# Altium schematic symbol library MCU_SiFive.SchLib: 3 symbols
Pins are listed as number, name and electrical type; pins without a type are passive.

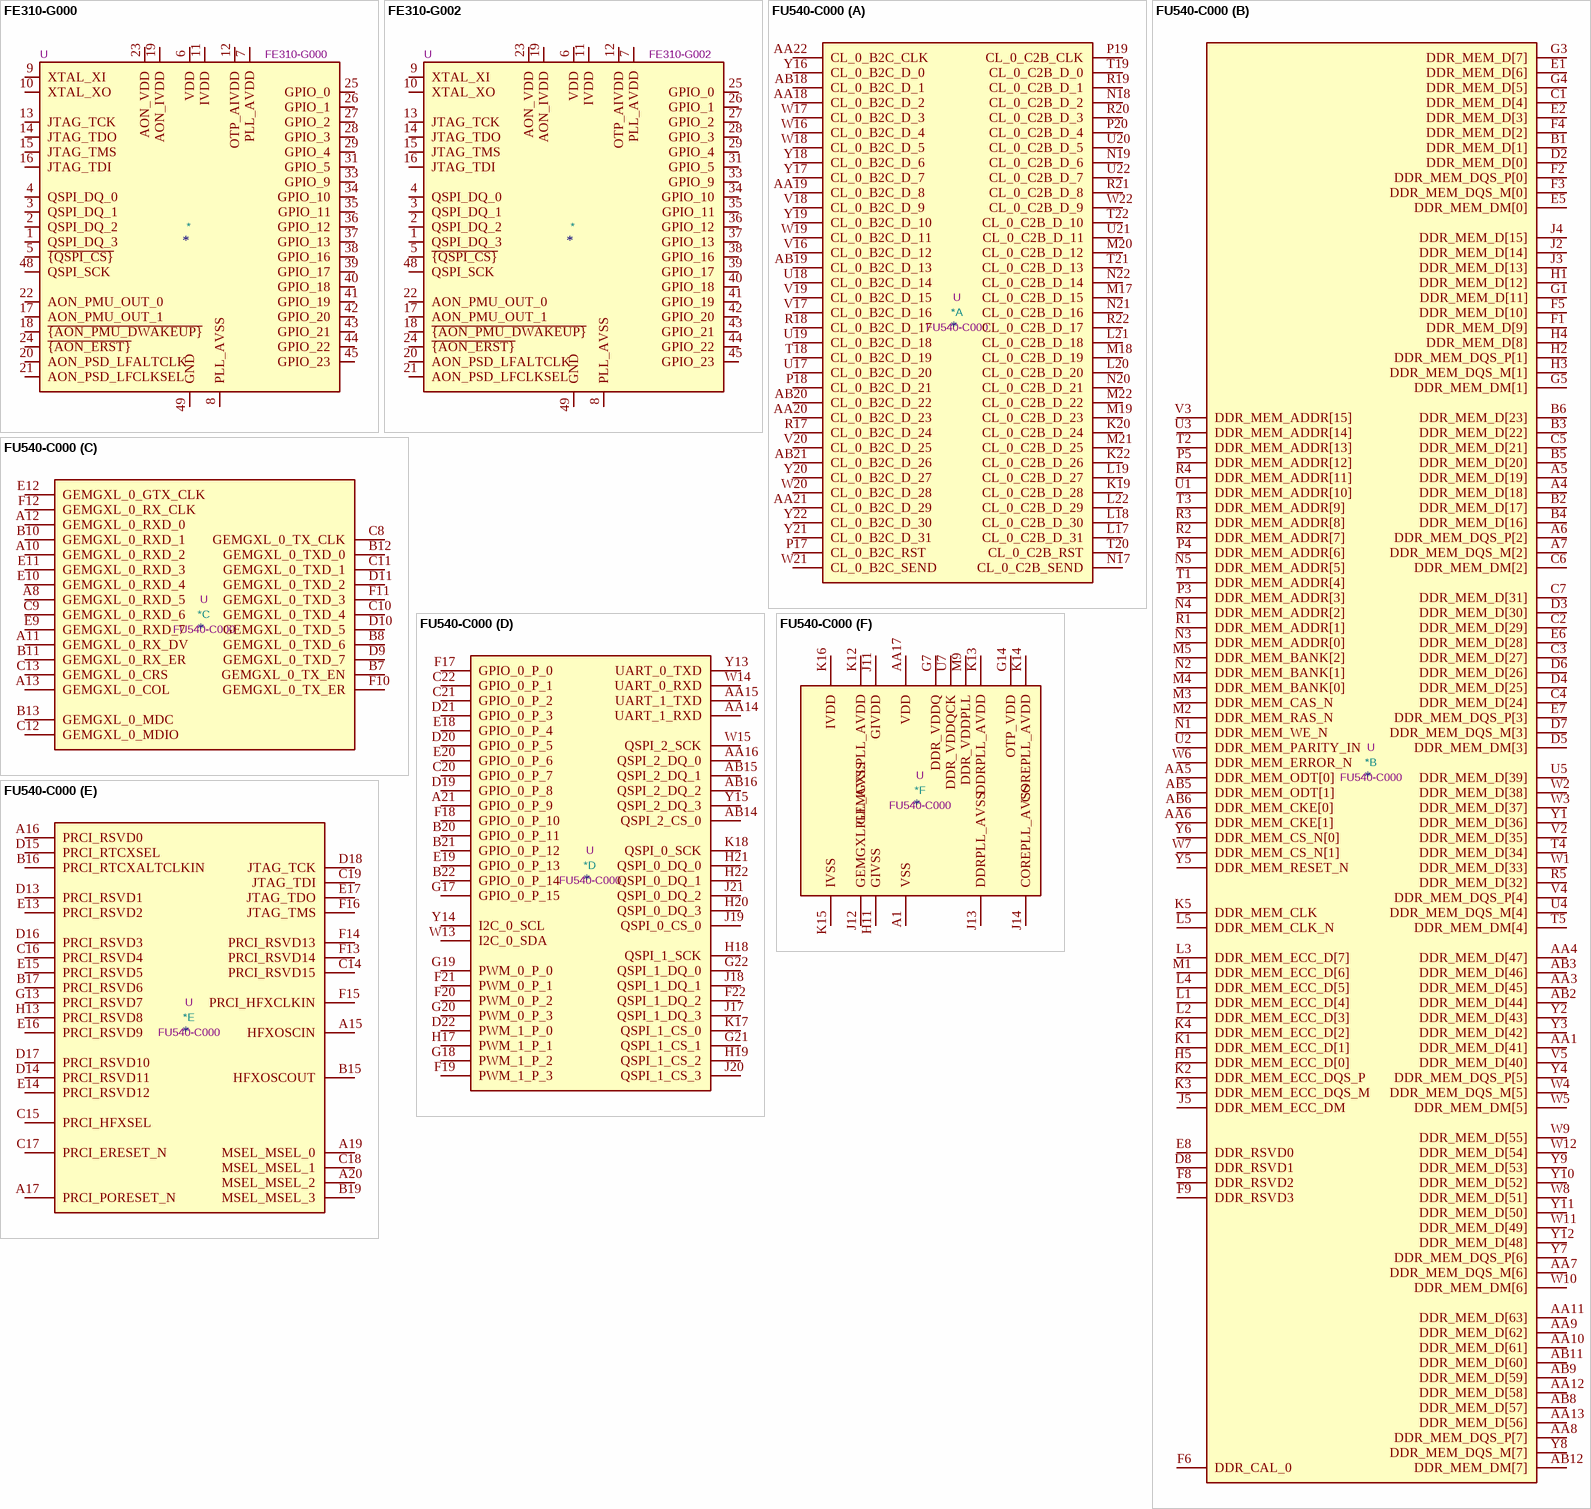
[diagram p0: symbols FE310-G000 to FU540-C000]

## FE310-G000
designator *  value FE310-G000  Reference: U
ki_keywords: microcontroller RISC-V SiFive; ki_description: RISC-V MCU, 8KB OTP Program Memory, 8KB ROM, 16KB Instruction Cache, 16KB SRAM, 320MHz, 1.8 and 3.6V, 24 GPIO, QFN-48; ki_fp_filters: QFN*1EP*6x6mm*P0.4mm*; Footprint: Package_DFN_QFN:QFN-48-1EP_6x6mm_P0.4mm_EP4.2x4.2mm_ThermalVias; Datasheet: https://sifive.cdn.prismic.io/sifive%2Ffeb6f967-ff96-418f-9af4-a7f3b7fd1dfc_fe310-g000-ds.pdf
pins: 1 QSPI_DQ_3, 2 QSPI_DQ_2, 3 QSPI_DQ_1, 4 QSPI_DQ_0, 5 ~{{QSPI_CS}}, 6 VDD, 7 PLL_AVDD, 8 PLL_AVSS, 9 XTAL_XI, 10 XTAL_XO, 11 IVDD, 12 OTP_AIVDD, 13 JTAG_TCK, 14 JTAG_TDO, 15 JTAG_TMS, 16 JTAG_TDI, 17 AON_PMU_OUT_1, 18 ~{{AON_PMU_DWAKEUP}}, 19 AON_IVDD, 20 AON_PSD_LFALTCLK, 21 AON_PSD_LFCLKSEL, 22 AON_PMU_OUT_0, 23 AON_VDD, 24 ~{{AON_ERST}}, 25 GPIO_0, 26 GPIO_1, 27 GPIO_2, 28 GPIO_3, 29 GPIO_4, 30 VDD hidden, 31 GPIO_5, 32 IVDD hidden, 33 GPIO_9, 34 GPIO_10, 35 GPIO_11, 36 GPIO_12, 37 GPIO_13, 38 GPIO_16, 39 GPIO_17, 40 GPIO_18, 41 GPIO_19, 42 GPIO_20, 43 GPIO_21, 44 GPIO_22, 45 GPIO_23, 46 VDD hidden, 47 IVDD hidden, 48 QSPI_SCK, 49 GND

## FE310-G002
designator *  value FE310-G002  Reference: U
ki_keywords: microcontroller RISC-V SiFive; ki_description: RISC-V MCU, 8KB OTP Program Memory, 8KB ROM, 16KB Instruction Cache, 16KB SRAM, 320MHz, 1.8 and 3.6V, 24 GPIO, QFN-48; ki_fp_filters: QFN*1EP*6x6mm*P0.4mm*; Footprint: Package_DFN_QFN:QFN-48-1EP_6x6mm_P0.4mm_EP4.2x4.2mm_ThermalVias; Datasheet: https://sifive.cdn.prismic.io/sifive%2F3d777659-a0dd-49ed-a011-5bebba17aecf_fe310-g002-ds.pdf
pins: 1 QSPI_DQ_3, 2 QSPI_DQ_2, 3 QSPI_DQ_1, 4 QSPI_DQ_0, 5 ~{{QSPI_CS}}, 6 VDD, 7 PLL_AVDD, 8 PLL_AVSS, 9 XTAL_XI, 10 XTAL_XO, 11 IVDD, 12 OTP_AIVDD, 13 JTAG_TCK, 14 JTAG_TDO, 15 JTAG_TMS, 16 JTAG_TDI, 17 AON_PMU_OUT_1, 18 ~{{AON_PMU_DWAKEUP}}, 19 AON_IVDD, 20 AON_PSD_LFALTCLK, 21 AON_PSD_LFCLKSEL, 22 AON_PMU_OUT_0, 23 AON_VDD, 24 ~{{AON_ERST}}, 25 GPIO_0, 26 GPIO_1, 27 GPIO_2, 28 GPIO_3, 29 GPIO_4, 30 VDD hidden, 31 GPIO_5, 32 IVDD hidden, 33 GPIO_9, 34 GPIO_10, 35 GPIO_11, 36 GPIO_12, 37 GPIO_13, 38 GPIO_16, 39 GPIO_17, 40 GPIO_18, 41 GPIO_19, 42 GPIO_20, 43 GPIO_21, 44 GPIO_22, 45 GPIO_23, 46 VDD hidden, 47 IVDD hidden, 48 QSPI_SCK, 49 GND

## FU540-C000
designator *  value FU540-C000  Reference: U
ki_keywords: SiFive; ki_description: 64-bit RISC‑V SoC, BGA-484; ki_fp_filters: BGA*23.0x23.0mm*P1.0mm*; Footprint: Package_BGA:BGA-484_23.0x23.0mm_Layout22x22_P1.0mm; Datasheet: https://static.dev.sifive.com/FU540-C000-v1.0.pdf
part A pins: AA18 CL_0_B2C_D_2, AA19 CL_0_B2C_D_8, AA20 CL_0_B2C_D_23, AA21 CL_0_B2C_D_29, AA22 CL_0_B2C_CLK, AB18 CL_0_B2C_D_1, AB19 CL_0_B2C_D_13, AB20 CL_0_B2C_D_22, AB21 CL_0_B2C_D_26, K19 CL_0_C2B_D_28, K20 CL_0_C2B_D_24, K22 CL_0_C2B_D_26, L17 CL_0_C2B_D_31, L18 CL_0_C2B_D_30, L19 CL_0_C2B_D_27, L20 CL_0_C2B_D_20, L21 CL_0_C2B_D_18, L22 CL_0_C2B_D_29, M17 CL_0_C2B_D_15, M18 CL_0_C2B_D_19, M19 CL_0_C2B_D_23, M20 CL_0_C2B_D_12, M21 CL_0_C2B_D_25, M22 CL_0_C2B_D_22, N17 CL_0_C2B_SEND, N18 CL_0_C2B_D_2, N19 CL_0_C2B_D_6, N20 CL_0_C2B_D_21, N21 CL_0_C2B_D_16, N22 CL_0_C2B_D_14, P17 CL_0_B2C_RST, P18 CL_0_B2C_D_21, P19 CL_0_C2B_CLK, P20 CL_0_C2B_D_4, R17 CL_0_B2C_D_24, R18 CL_0_B2C_D_17, R19 CL_0_C2B_D_1, R20 CL_0_C2B_D_3, R21 CL_0_C2B_D_8, R22 CL_0_C2B_D_17, T18 CL_0_B2C_D_19, T19 CL_0_C2B_D_0, T20 CL_0_C2B_RST, T21 CL_0_C2B_D_13, T22 CL_0_C2B_D_10, U17 CL_0_B2C_D_20, U18 CL_0_B2C_D_14, U19 CL_0_B2C_D_18, U20 CL_0_C2B_D_5, U21 CL_0_C2B_D_11, U22 CL_0_C2B_D_7, V16 CL_0_B2C_D_12, V17 CL_0_B2C_D_16, V18 CL_0_B2C_D_9, V19 CL_0_B2C_D_15, V20 CL_0_B2C_D_25, W16 CL_0_B2C_D_4, W17 CL_0_B2C_D_3, W18 CL_0_B2C_D_5, W19 CL_0_B2C_D_11, W20 CL_0_B2C_D_28, W21 CL_0_B2C_SEND, W22 CL_0_C2B_D_9, Y16 CL_0_B2C_D_0, Y17 CL_0_B2C_D_7, Y18 CL_0_B2C_D_6, Y19 CL_0_B2C_D_10, Y20 CL_0_B2C_D_27, Y21 CL_0_B2C_D_31, Y22 CL_0_B2C_D_30
part B pins: A4 DDR_MEM_D[18], A5 DDR_MEM_D[19], A6 DDR_MEM_DQS_P[2], A7 DDR_MEM_DQS_M[2], AA1 DDR_MEM_D[41], AA3 DDR_MEM_D[45], AA4 DDR_MEM_D[47], AA5 DDR_MEM_ODT[0], AA6 DDR_MEM_CKE[1], AA7 DDR_MEM_DQS_M[6], AA8 DDR_MEM_DQS_P[7], AA9 DDR_MEM_D[62], AA10 DDR_MEM_D[61], AA11 DDR_MEM_D[63], AA12 DDR_MEM_D[58], AA13 DDR_MEM_D[56], AB2 DDR_MEM_D[44], AB3 DDR_MEM_D[46], AB5 DDR_MEM_ODT[1], AB6 DDR_MEM_CKE[0], AB8 DDR_MEM_D[57], AB9 DDR_MEM_D[59], AB11 DDR_MEM_D[60], AB12 DDR_MEM_DM[7], B1 DDR_MEM_D[1], B2 DDR_MEM_D[17], B3 DDR_MEM_D[22], B4 DDR_MEM_D[16], B5 DDR_MEM_D[20], B6 DDR_MEM_D[23], C1 DDR_MEM_D[4], C2 DDR_MEM_D[29], C3 DDR_MEM_D[27], C4 DDR_MEM_D[24], C5 DDR_MEM_D[21], C6 DDR_MEM_DM[2], C7 DDR_MEM_D[31], D2 DDR_MEM_D[0], D3 DDR_MEM_D[30], D4 DDR_MEM_D[25], D5 DDR_MEM_DM[3], D6 DDR_MEM_D[26], D7 DDR_MEM_DQS_M[3], D8 DDR_RSVD1, E1 DDR_MEM_D[6], E2 DDR_MEM_D[3], E5 DDR_MEM_DM[0], E6 DDR_MEM_D[28], E7 DDR_MEM_DQS_P[3], E8 DDR_RSVD0, F1 DDR_MEM_D[9], F2 DDR_MEM_DQS_P[0], F3 DDR_MEM_DQS_M[0], F4 DDR_MEM_D[2], F5 DDR_MEM_D[10], F6 DDR_CAL_0, F8 DDR_RSVD2, F9 DDR_RSVD3, G1 DDR_MEM_D[11], G3 DDR_MEM_D[7], G4 DDR_MEM_D[5], G5 DDR_MEM_DM[1], H1 DDR_MEM_D[12], H2 DDR_MEM_DQS_P[1], H3 DDR_MEM_DQS_M[1], H4 DDR_MEM_D[8], H5 DDR_MEM_ECC_D[0], J2 DDR_MEM_D[14], J3 DDR_MEM_D[13], J4 DDR_MEM_D[15], J5 DDR_MEM_ECC_DM, K1 DDR_MEM_ECC_D[1], K2 DDR_MEM_ECC_DQS_P, K3 DDR_MEM_ECC_DQS_M, K4 DDR_MEM_ECC_D[2], K5 DDR_MEM_CLK, L1 DDR_MEM_ECC_D[4], L2 DDR_MEM_ECC_D[3], L3 DDR_MEM_ECC_D[7], L4 DDR_MEM_ECC_D[5], L5 DDR_MEM_CLK_N, M1 DDR_MEM_ECC_D[6], M2 DDR_MEM_RAS_N, M3 DDR_MEM_CAS_N, M4 DDR_MEM_BANK[0], M5 DDR_MEM_BANK[2], N1 DDR_MEM_WE_N, N2 DDR_MEM_BANK[1], N3 DDR_MEM_ADDR[0], N4 DDR_MEM_ADDR[2], N5 DDR_MEM_ADDR[5], P3 DDR_MEM_ADDR[3], P4 DDR_MEM_ADDR[6], P5 DDR_MEM_ADDR[12], R1 DDR_MEM_ADDR[1], R2 DDR_MEM_ADDR[7], R3 DDR_MEM_ADDR[8], R4 DDR_MEM_ADDR[11], R5 DDR_MEM_D[32], T1 DDR_MEM_ADDR[4], T2 DDR_MEM_ADDR[13], T3 DDR_MEM_ADDR[9], T4 DDR_MEM_D[34], T5 DDR_MEM_DM[4], U1 DDR_MEM_ADDR[10], U2 DDR_MEM_PARITY_IN, U3 DDR_MEM_ADDR[14], U4 DDR_MEM_DQS_M[4], U5 DDR_MEM_D[39], V2 DDR_MEM_D[35], V3 DDR_MEM_ADDR[15], V4 DDR_MEM_DQS_P[4], V5 DDR_MEM_D[40], W1 DDR_MEM_D[33], W2 DDR_MEM_D[38], W3 DDR_MEM_D[37], W4 DDR_MEM_DQS_M[5], W5 DDR_MEM_DM[5], W6 DDR_MEM_ERROR_N, W7 DDR_MEM_CS_N[1], W8 DDR_MEM_D[51], W9 DDR_MEM_D[55], W10 DDR_MEM_DM[6], W11 DDR_MEM_D[49], W12 DDR_MEM_D[54], Y1 DDR_MEM_D[36], Y2 DDR_MEM_D[43], Y3 DDR_MEM_D[42], Y4 DDR_MEM_DQS_P[5], Y5 DDR_MEM_RESET_N, Y6 DDR_MEM_CS_N[0], Y7 DDR_MEM_DQS_P[6], Y8 DDR_MEM_DQS_M[7], Y9 DDR_MEM_D[53], Y10 DDR_MEM_D[52], Y11 DDR_MEM_D[50], Y12 DDR_MEM_D[48]
part C pins: A8 GEMGXL_0_RXD_5, A10 GEMGXL_0_RXD_2, A11 GEMGXL_0_RX_DV, A12 GEMGXL_0_RXD_0, A13 GEMGXL_0_COL, B7 GEMGXL_0_TX_EN, B8 GEMGXL_0_TXD_6, B10 GEMGXL_0_RXD_1, B11 GEMGXL_0_RX_ER, B12 GEMGXL_0_TXD_0, B13 GEMGXL_0_MDC, C8 GEMGXL_0_TX_CLK, C9 GEMGXL_0_RXD_6, C10 GEMGXL_0_TXD_4, C11 GEMGXL_0_TXD_1, C12 GEMGXL_0_MDIO, C13 GEMGXL_0_CRS, D9 GEMGXL_0_TXD_7, D10 GEMGXL_0_TXD_5, D11 GEMGXL_0_TXD_2, E9 GEMGXL_0_RXD_7, E10 GEMGXL_0_RXD_4, E11 GEMGXL_0_RXD_3, E12 GEMGXL_0_GTX_CLK, F10 GEMGXL_0_TX_ER, F11 GEMGXL_0_TXD_3, F12 GEMGXL_0_RX_CLK
part D pins: A21 GPIO_0_P_9, AA14 UART_1_RXD, AA15 UART_1_TXD, AA16 QSPI_2_DQ_0, AB14 QSPI_2_CS_0, AB15 QSPI_2_DQ_1, AB16 QSPI_2_DQ_2, B20 GPIO_0_P_11, B21 GPIO_0_P_12, B22 GPIO_0_P_14, C20 GPIO_0_P_7, C21 GPIO_0_P_2, C22 GPIO_0_P_1, D19 GPIO_0_P_8, D20 GPIO_0_P_5, D21 GPIO_0_P_3, D22 PWM_1_P_0, E18 GPIO_0_P_4, E19 GPIO_0_P_13, E20 GPIO_0_P_6, F17 GPIO_0_P_0, F18 GPIO_0_P_10, F19 PWM_1_P_3, F20 PWM_0_P_2, F21 PWM_0_P_1, F22 QSPI_1_DQ_2, G17 GPIO_0_P_15, G18 PWM_1_P_2, G19 PWM_0_P_0, G20 PWM_0_P_3, G21 QSPI_1_CS_1, G22 QSPI_1_DQ_0, H17 PWM_1_P_1, H18 QSPI_1_SCK, H19 QSPI_1_CS_2, H20 QSPI_0_DQ_3, H21 QSPI_0_DQ_0, H22 QSPI_0_DQ_1, J17 QSPI_1_DQ_3, J18 QSPI_1_DQ_1, J19 QSPI_0_CS_0, J20 QSPI_1_CS_3, J21 QSPI_0_DQ_2, K17 QSPI_1_CS_0, K18 QSPI_0_SCK, W13 I2C_0_SDA, W14 UART_0_RXD, W15 QSPI_2_SCK, Y13 UART_0_TXD, Y14 I2C_0_SCL, Y15 QSPI_2_DQ_3
part E pins: A15 HFXOSCIN, A16 PRCI_RSVD0, A17 PRCI_PORESET_N, A19 MSEL_MSEL_0, A20 MSEL_MSEL_2, B15 HFXOSCOUT, B16 PRCI_RTCXALTCLKIN, B17 PRCI_RSVD6, B19 MSEL_MSEL_3, C14 PRCI_RSVD15, C15 PRCI_HFXSEL, C16 PRCI_RSVD4, C17 PRCI_ERESET_N, C18 MSEL_MSEL_1, C19 JTAG_TDI, D13 PRCI_RSVD1, D14 PRCI_RSVD11, D15 PRCI_RTCXSEL, D16 PRCI_RSVD3, D17 PRCI_RSVD10, D18 JTAG_TCK, E13 PRCI_RSVD2, E14 PRCI_RSVD12, E15 PRCI_RSVD5, E16 PRCI_RSVD9, E17 JTAG_TDO, F13 PRCI_RSVD14, F14 PRCI_RSVD13, F15 PRCI_HFXCLKIN, F16 JTAG_TMS, G13 PRCI_RSVD7, H13 PRCI_RSVD8
part F pins: A1 VSS, A2 VSS hidden, A3 VSS hidden, A9 VSS hidden, A14 VSS hidden, A18 VSS hidden, A22 VSS hidden, AA2 VSS hidden, AA17 VDD, AB1 VSS hidden, AB4 VSS hidden, AB7 VSS hidden, AB10 VSS hidden, AB13 VSS hidden, AB17 VSS hidden, AB22 VSS hidden, B9 VDD hidden, B14 VDD hidden, B18 VDD hidden, D1 VSS hidden, D12 VSS hidden, E3 VDD hidden, E4 VSS hidden, E21 VDD hidden, E22 VSS hidden, F7 VSS hidden, G2 VSS hidden, G6 VSS hidden, G7 DDR_VDDQ, G8 VSS hidden, G9 VDD hidden, G10 VSS hidden, G11 VDD hidden, G12 VSS hidden, G14 OTP_VDD, G15 VDD hidden, G16 VSS hidden, H6 DDR_VDDQ hidden, H7 VSS hidden, H8 VDD hidden, H9 VSS hidden, H10 VDD hidden, H11 GIVSS, H12 VDD hidden, H14 VDD hidden, H15 VSS hidden, H16 VDD hidden, J1 VSS hidden, J6 VSS hidden, J7 DDR_VDDQ hidden, J8 VSS hidden, J9 VDD hidden, J10 VSS hidden, J11 GIVDD, J12 GEMGXLPLL_AVSS, J13 DDRPLL_AVSS, J14 COREPLL_AVSS, J15 VDD hidden, J16 VSS hidden, J22 VSS hidden, K6 DDR_VDDQ hidden, K7 VSS hidden, K8 VDD hidden, K9 VSS hidden, K10 VDD hidden, K11 VSS hidden, K12 GEMGXLPLL_AVDD, K13 DDRPLL_AVDD, K14 COREPLL_AVDD, K15 IVSS, K16 IVDD, K21 VDD hidden, L6 VSS hidden, L7 DDR_VDDQ hidden, L8 VSS hidden, L9 DDR_VDDPLL hidden, L10 VSS hidden, L11 VDD hidden, L12 VSS hidden, L13 VDD hidden, L14 VSS hidden, L15 IVSS hidden, L16 IVDD hidden, M6 DDR_VDDQ hidden, M7 VSS hidden, M8 VDD hidden, M9 DDR_VDDPLL, M10 VDD hidden, M11 VSS hidden, M12 VDD hidden, M13 VSS hidden, M14 VDD hidden, M15 IVSS hidden, M16 IVDD hidden, N6 VSS hidden, N7 DDR_VDDQ hidden, N8 VSS hidden, N9 VDD hidden, N10 VSS hidden, N11 VDD hidden, N12 VSS hidden, N13 VDD hidden, N14 VSS hidden, N15 IVSS hidden, N16 IVDD hidden, P1 VSS hidden, P2 VDD hidden, P6 DDR_VDDQ hidden, P7 VSS hidden, P8 VDD hidden, P9 VSS hidden, P10 VDD hidden, P11 VSS hidden, P12 VDD hidden, P13 VSS hidden, P14 VDD hidden, P15 VSS hidden, P16 VDD hidden, P21 VDD hidden, P22 VSS hidden, R6 VSS hidden, R7 DDR_VDDQ hidden, R8 VSS hidden, R9 VDD hidden, R10 VSS hidden, R11 VDD hidden, R12 VSS hidden, R13 VDD hidden, R14 VSS hidden, R15 VDD hidden, R16 VSS hidden, T6 DDR_VDDQ hidden, T7 VSS hidden, T8 VDD hidden, T9 VSS hidden, T10 VDD hidden, T11 VSS hidden, T12 VDD hidden, T13 VSS hidden, T14 VDD hidden, T15 VSS hidden, T16 VDD hidden, T17 VSS hidden, U6 VSS hidden, U7 DDR_VDDQCK, U8 VSS hidden, U9 VDD hidden, U10 VSS hidden, U11 VDD hidden, U12 VSS hidden, U13 VDD hidden, U14 VSS hidden, U15 VDD hidden, U16 VSS hidden, V1 VSS hidden, V6 VDD hidden, V7 VSS hidden, V8 VDD hidden, V9 VSS hidden, V10 VDD hidden, V11 VSS hidden, V12 VDD hidden, V13 VSS hidden, V14 VDD hidden, V15 VSS hidden, V21 VDD hidden, V22 VSS hidden